# EAGLE library part PP6N-* (library prolightopto)
RGB Power LED Crab Type Source: http://www.prolightopto.com/upload/DS-0353_0.2W_PP6N-TFFE-D60_v1.3.pdf http://www.prolightopto.com/upload/DS-0354_0.5W_PP6N-FFFE-D60_v1.3.pdf http://www.prolightopto.com/upload/DS-0217_1W_PP6N-1LFE-P_v1.4.pdf
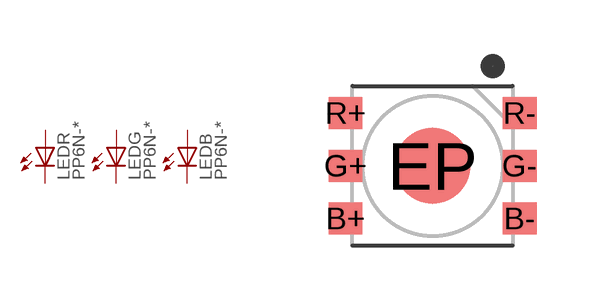
[diagram p1: symbol with the pads of PP6N; footprint PP6N]

Designator prefix LED; gates G=LED B=LED R=LED

## PP6N-1LFE, PP6N-FFFE, PP6N-TFFE  [PP6N]
B+  B:A  pas
B-  B:C  pas
G+  G:A  pas
G-  G:C  pas
R+  R:A  pas
R-  R:C  pas

## Footprint PP6N (pad centres in mm)
smd 0.85 x 0.8: B+ -2.175,-1.32; B- 2.175,-1.32; G+ -2.175,0; G- 2.175,0; R+ -2.175,1.32; R- 2.175,1.32
smd 1.9 x 1.9: EP 0,0